# Altium footprint library PCB - CONNECTOR - SAMTEC PHF-104-01-S-S.PCBLIB: 1 footprints
Each footprint in its own frame and in the unit in brackets; x right, y up, seen from the top. Pads: shape width x height; smd on the part's side, far side on the other; paste and mask are expansions set on the pad; w line width, h text height; cw(c..) or ccw(c..) is an arc to the next point about the centre after c.
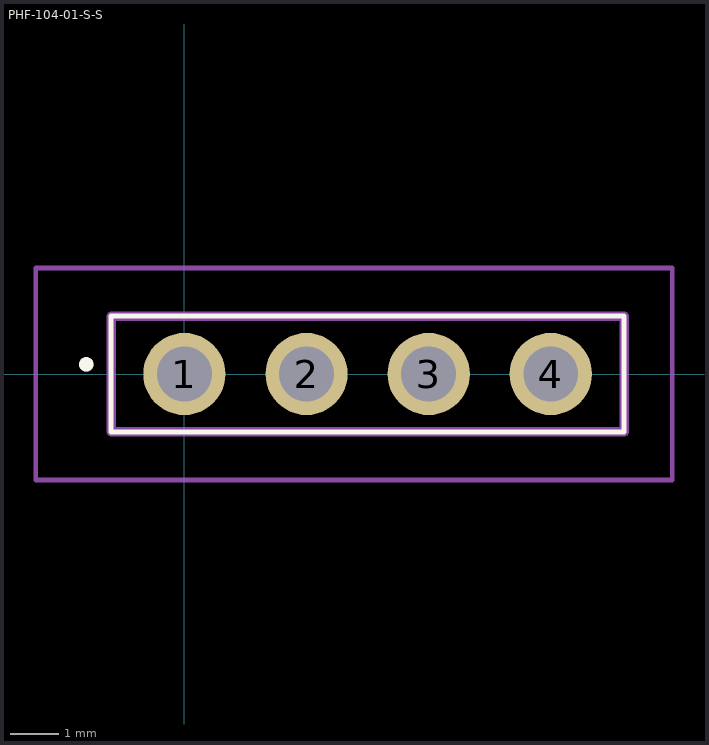
[diagram p0: the footprint, top view; thin cyan lines are the x and y axes]

## PHF-104-01-S-S [mm]
pads (4):
  round 1.71 hole 1.14: 1(0,0) 2(2.54,0) 3(5.08,0) 4(7.62,0)
Top Overlay:
  lines w0.1: -1.525,-1.205 9.145,-1.205 9.145,1.205 -1.525,1.205 -1.525,-1.205
  lines w0.2: -2.09,0.2 cw(c-2.04,0.2) -1.99,0.2 cw(c-2.04,0.2) -2.09,0.2
Top Assembly:
  lines w0.2: -2.09,0.2 ccw(c-2.04,0.2) -1.99,0.2 ccw(c-2.04,0.2) -2.09,0.2 ; -1.525,-1.205 9.145,-1.205 9.145,1.205 -1.525,1.205 -1.525,-1.205
Top Courtyard:
  lines w0.1: -3.09,-2.205 10.145,-2.205 10.145,2.205 -3.09,2.205 -3.09,-2.205
Top Designator:
  text ".Designator" at -2.794,4.064 h1
Top Value (Mech13):
  text ".Comment" at -2.794,3.048 h1
3D body "PHF-104-01-S-S.stp": height 8.5, standoff -5, extent -1.525,-1.205 9.145,1.205